# Altium schematic symbol library HSMW-C170-U0000.SchLib: 1 symbol
Pins are listed as number, name and electrical type; pins without a type are passive.

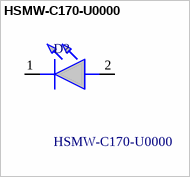
[diagram p0: symbol HSMW-C170-U0000]

## HSMW-C170-U0000
designator D?
BROADCOM LIMITED - HSMW-C170-U0000 - LED, WHITE, 670MCD, 0805; Manufacturer_Name: Avago Technologies; Geometry.Height: 0.9mm; Mouser Part Number: 630-HSMW-C170-U0000; Mouser Price/Stock: https://www.mouser.co.uk/ProductDetail/Broadcom-Avago/HSMW-C170-U0000?qs=tMOYG%252Bw4%252BLwGyeHODzQdug%3D%3D; Manufacturer_Part_Number: HSMW-C170-U0000; Datasheet Link: https://componentsearchengine.com/Datasheets/2/HSMW-C170-U0000.pdf
footprint LEDC2012X90N
pins: 1 K, 2 A